# EAGLE library part ADXL343BCCZ-RL (library ADXL343BCCZ-RL)
Accelerometer X, Y, Z Axis +/-2g, 4g, 8g, 16g 0.05Hz ~ 1.6kHz 14-LGA (3x5) Source: Datasheet <https://www.analog.com/media/en/technical-documentation/data-sheets/ADXL343.pdf>
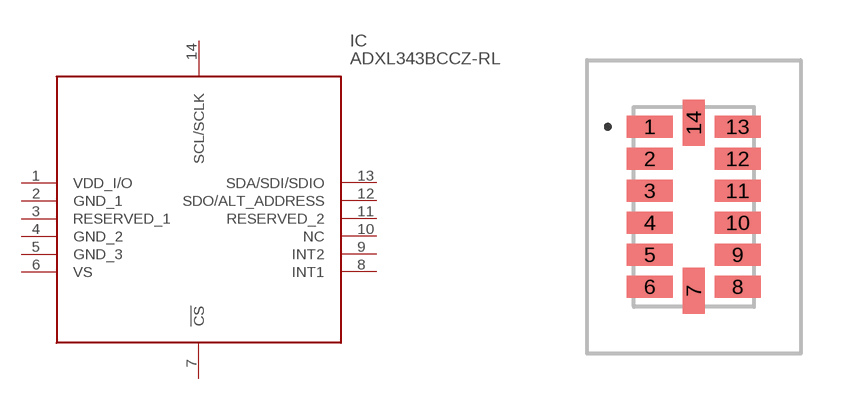
[diagram p0: symbol with the pads of ADXL343BCCZRL; footprint ADXL343BCCZRL]

Designator prefix IC

## ADXL343BCCZ-RL (Arrow_Part_Number: ADXL343BCCZ-RL; Arrow_Price-Stock: https://www.arrow.com/en/products/adxl343bccz-rl/analog-devices?region=nac; Description: Accelerometer X, Y, Z Axis +/-2g, 4g, 8g, 16g 0.05Hz ~ 1.6kHz 14-LGA (3x5); Height: 1mm; Manufacturer_Name: Analog Devices; Manufacturer_Part_Number: ADXL343BCCZ-RL; Mouser_Part_Number: 584-ADXL343BCCZ-R; Mouser_Price-Stock: https://www.mouser.co.uk/ProductDetail/Analog-Devices/ADXL343BCCZ-RL?qs=WIvQP4zGaniHpowyrbt1Aw%3D%3D)  [ADXL343BCCZRL]
1  VDD_I/O
2  GND_1
3  RESERVED_1
4  GND_2
5  GND_3
6  VS
7  !CS
8  INT1
9  INT2
10  NC  nc
11  RESERVED_2
12  SDO/ALT_ADDRESS
13  SDA/SDI/SDIO
14  SCL/SCLK

## Footprint ADXL343BCCZRL (pad centres in mm)
14-Terminal Land Grid Array [LGA] (CC-14-1)
smd 1.145 x 0.55: 1 -1.098,2; 2 -1.098,1.2; 3 -1.098,0.4; 4 -1.098,-0.4; 5 -1.098,-1.2; 6 -1.098,-2; 8 1.098,-2; 9 1.098,-1.2; 10 1.098,-0.4; 11 1.098,0.4; 12 1.098,1.2; 13 1.098,2
smd 0.55 x 1.145: 7 0,-2.098; 14 0,2.098